# Altium footprint library STM32F103C8T6核心板_2020-09-12_10-31-41.PcbLib: 1 footprints
Each footprint in its own frame and in the unit in brackets; x right, y up, seen from the top. Pads: shape width x height; smd on the part's side, far side on the other; paste and mask are expansions set on the pad; w line width, h text height; cw(c..) or ccw(c..) is an arc to the next point about the centre after c.
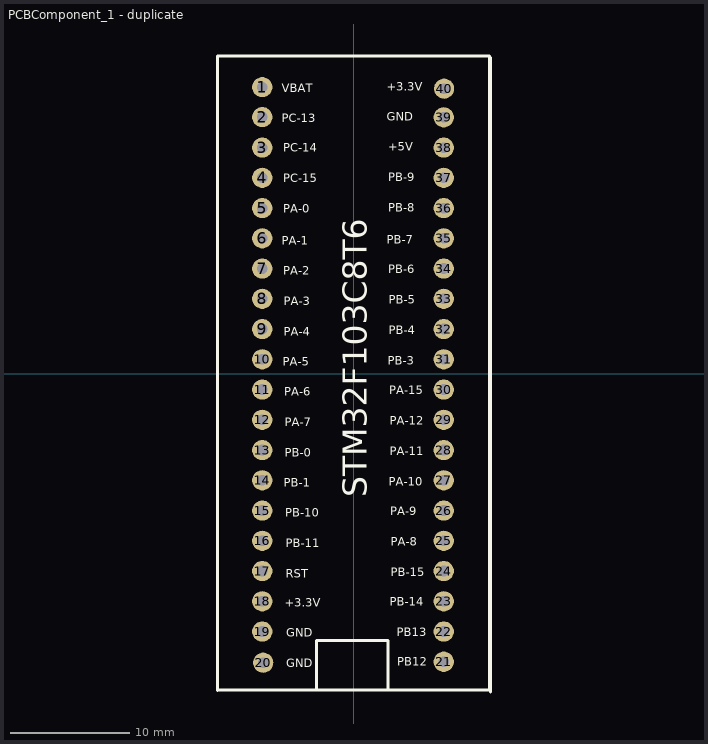
[diagram p0: the footprint, top view; thin cyan lines are the x and y axes]

## PCBComponent_1 - duplicate [mm]
pads (40):
  round 1.7 hole 0.899: 1(-7.703,24.092) 2(-7.703,21.577) 3(-7.703,19.012) 4(-7.703,16.472) 5(-7.703,13.932) 6(-7.703,11.392) 7(-7.703,8.852) 8(-7.703,6.312) 9(-7.703,3.772) 10(-7.703,1.232) 11(-7.703,-1.308) 12(-7.703,-3.848) 13(-7.703,-6.388) 14(-7.703,-8.928) 15(-7.703,-11.468) 16(-7.703,-14.008) 17(-7.703,-16.548) 18(-7.703,-19.088) 19(-7.703,-21.628) 20(-7.626,-24.244) 21(7.537,-24.168) 22(7.537,-21.628) 23(7.537,-19.088) 24(7.537,-16.548) 25(7.537,-14.008) 26(7.537,-11.468) 27(7.537,-8.928) 28(7.537,-6.388) 29(7.537,-3.848) 30(7.537,-1.308) 31(7.537,1.232) 32(7.537,3.772) 33(7.537,6.312) 34(7.537,8.852) 35(7.537,11.392) 36(7.537,13.932) 37(7.537,16.472) 38(7.537,19.012) 39(7.537,21.552) 40(7.563,23.965)
Top Overlay:
  lines w0.254: -11.462,-26.556 11.398,-26.556 ; -11.462,26.721 11.398,26.721 11.398,-26.568 ; -11.449,-26.568 -11.449,26.721 ; -3.08,-26.479 -3.156,-26.502 -3.156,-22.365 2.864,-22.365 2.864,-26.53 2.94,-26.53 ; 11.462,-26.721 11.462,26.568
  text "VBAT" at -6.052,23.666 h0.7
  text "PC-13" at -6.077,21.151 h0.7
  text "PC-14" at -5.95,18.662 h0.7
  text "PC-15" at -5.925,16.096 h0.7
  text "PA-0" at -5.925,13.531 h0.7
  text "PA-1" at -6.052,10.839 h0.7
  text "PA-2" at -5.925,8.349 h0.7
  text "PA-3" at -5.899,5.784 h0.7
  text "PA-4" at -5.899,3.219 h0.7
  text "PA-5" at -5.975,0.679 h0.7
  text "PA-6" at -5.848,-1.811 h0.7
  text "PA-7" at -5.823,-4.376 h0.7
  text "PB-0" at -5.823,-6.941 h0.7
  text "PB-1" at -5.899,-9.481 h0.7
  text "PB-10" at -5.772,-11.971 h0.7
  text "PB-11" at -5.747,-14.536 h0.7
  text "RST" at -5.747,-17.101 h0.7
  text "+3.3V" at -5.823,-19.565 h0.7
  text "GND" at -5.696,-22.054 h0.7
  text "GND" at -5.671,-24.62 h0.7
  text "+3.3V" at 2.762,23.767 h0.7
  text "GND" at 2.737,21.253 h0.7
  text "+5V" at 2.864,18.763 h0.7
  text "PB-9" at 2.889,16.198 h0.7
  text "PB-8" at 2.889,13.633 h0.7
  text "PB-7" at 2.762,10.94 h0.7
  text "PB-6" at 2.889,8.451 h0.7
  text "PB-5" at 2.915,5.886 h0.7
  text "PB-4" at 2.915,3.32 h0.7
  text "PB-3" at 2.838,0.78 h0.7
  text "PA-15" at 2.965,-1.709 h0.7
  text "PA-12" at 2.991,-4.274 h0.7
  text "PA-11" at 2.991,-6.84 h0.7
  text "PA-10" at 2.915,-9.38 h0.7
  text "PA-9" at 3.042,-11.869 h0.7
  text "PA-8" at 3.067,-14.434 h0.7
  text "PB-15" at 3.067,-17 h0.7
  text "PB-14" at 2.991,-19.464 h0.7
  text "PB13" at 3.6,-22.029 h0.7
  text "PB12" at 3.626,-24.518 h0.7
  text "STM32F103C8T6" at 1.086,-10.351 h2.03